# Altium schematic symbol library RC0603FR-0710ML.SchLib: 1 symbol
Pins are listed as number, name and electrical type; pins without a type are passive.

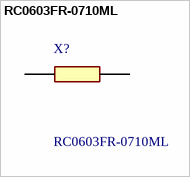
[diagram p0: symbol RC0603FR-0710ML]

## RC0603FR-0710ML
designator X?
Yageo RC Series Thick Film Surface Mount Resistor 0603 Case 10M +/-1% 0.1W +/-100ppm/C; Manufacturer_Name: Yageo Group; Geometry.Height: 0.55mm; Mouser Part Number: 603-RC0603FR-0710ML; Mouser Price/Stock: https://www.mouser.co.uk/ProductDetail/YAGEO/RC0603FR-0710ML?qs=uM1JSSdPjOCKkeKs5xUTUQ%3D%3D; Manufacturer_Part_Number: RC0603FR-0710ML; Datasheet Link: http://www.yageo.com/documents/recent/PYu-RC0603_51_RoHS_L_v5.pdf
footprint RESC1608X55N
pins: 1, 2